# Altium footprint library VQFN-14(3.5X3.5).PcbLib: 1 footprints
Each footprint in its own frame and in the unit in brackets; x right, y up, seen from the top. Pads: shape width x height; smd on the part's side, far side on the other; paste and mask are expansions set on the pad; w line width, h text height; cw(c..) or ccw(c..) is an arc to the next point about the centre after c.
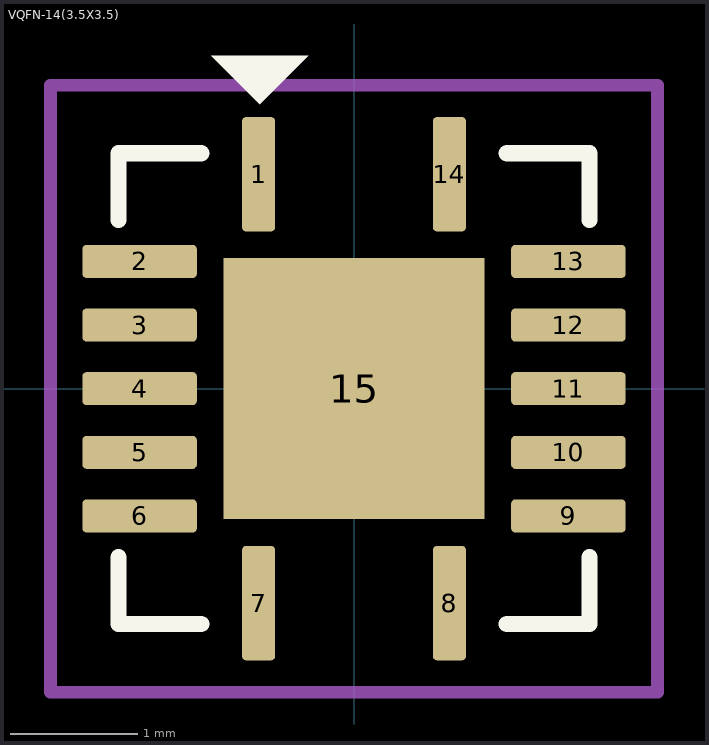
[diagram p0: the footprint, top view; thin cyan lines are the x and y axes]

## VQFN-14(3.5X3.5) [mm]
height 1
pads (15):
  rrect25% 0.26x0.9 smd mask+0.07: 1(-0.75,1.685) 7(-0.75,-1.685) 8(0.75,-1.685) 14(0.75,1.685)
  rrect25% 0.9x0.26 smd mask+0.07: 2(-1.685,1) 3(-1.685,0.5) 4(-1.685,0) 5(-1.685,-0.5) 6(-1.685,-1) 9(1.685,-1) 10(1.685,-0.5) 11(1.685,0) 12(1.685,0.5) 13(1.685,1)
  rect 2.05x2.05 smd paste-0.375: 15(0,0)
Top Overlay:
  region: -0.74,2.234 -0.359,2.615 -1.121,2.615
  lines w0.127: -1.85,-1.325 -1.85,-1.85 -1.2,-1.85 ; -1.85,1.325 -1.85,1.85 -1.2,1.85 ; 1.2,-1.85 1.85,-1.85 1.85,-1.325 ; 1.2,1.85 1.85,1.85 1.85,1.325
Top Courtyard:
  lines w0.1: -2.385,-2.385 -2.385,2.385 2.385,2.385 2.385,-2.385 -2.385,-2.385
3D body "step_temp.STEP": height 1, standoff 0, extent -1.75,-1.75 1.75,1.75